# EAGLE library part SN65HVD12D (library 31813 Neutron Readout PCB)
3.3 V RS485 tranceiver - Texas Instruments
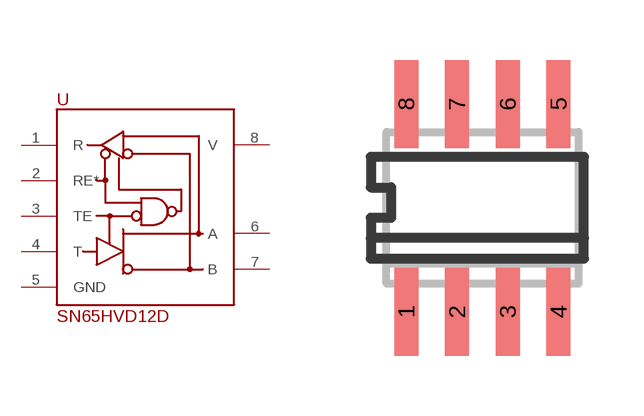
[diagram p14: symbol with the pads of SOIC-08-150; footprint SOIC-08-150]

Designator prefix U

## SN65HVD12D  [SOIC-08-150]
1  R
2  RE*
3  TE
4  T
5  GND
6  A
7  B
8  V

## Footprint SOIC-08-150 (pad centres in mm)
smd 0.6 x 2.2: 1 -1.905,-2.6; 2 -0.635,-2.6; 3 0.635,-2.6; 4 1.905,-2.6; 5 1.905,2.6; 6 0.635,2.6; 7 -0.635,2.6; 8 -1.905,2.6